# Altium integrated library PowerInductorSMD12x12.IntLib: 1 symbol
Pins are listed as number, name and electrical type; pins without a type are passive.

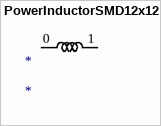
[diagram p0: symbol PowerInductorSMD12x12]

## PowerInductorSMD12x12
designator *
footprint PowerInductorSMD12x12
pins: 0 34, 1 33